# EAGLE library part RA-8 (library resistorarray)
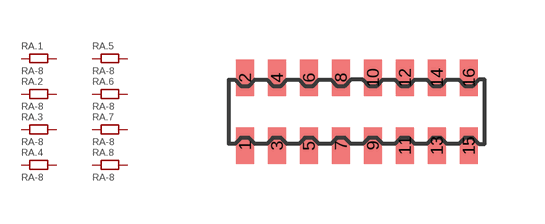
[diagram p1: symbol with the pads of 0603.8.C; footprint 0603.8.C]

Designator prefix RA; gates .1=RESISTOR .2=RESISTOR .3=RESISTOR .4=RESISTOR .5=RESISTOR .6=RESISTOR .7=RESISTOR .8=RESISTOR

## RA-8.0603  [0603.8.C]
1  .1:1
2  .1:2
3  .2:1
4  .2:2
5  .3:1
6  .3:2
7  .4:1
8  .4:2
9  .5:1
10  .5:2
11  .6:1
12  .6:2
13  .7:1
14  .7:2
15  .8:1
16  .8:2

## Footprint 0603.8.C (pad centres in mm)
smd 0.45 x 0.9: 1 -2.8,-0.85; 2 -2.8,0.85; 3 -2,-0.85; 4 -2,0.85; 5 -1.2,-0.85; 6 -1.2,0.85; 7 -0.4,-0.85; 8 -0.4,0.85; 9 0.4,-0.85; 10 0.4,0.85; 11 1.2,-0.85; 12 1.2,0.85; 13 2,-0.85; 14 2,0.85; 15 2.8,-0.85; 16 2.8,0.85